# EAGLE library part PICO_XPORT (library Modules)
Lantronix xPico Device Server Module
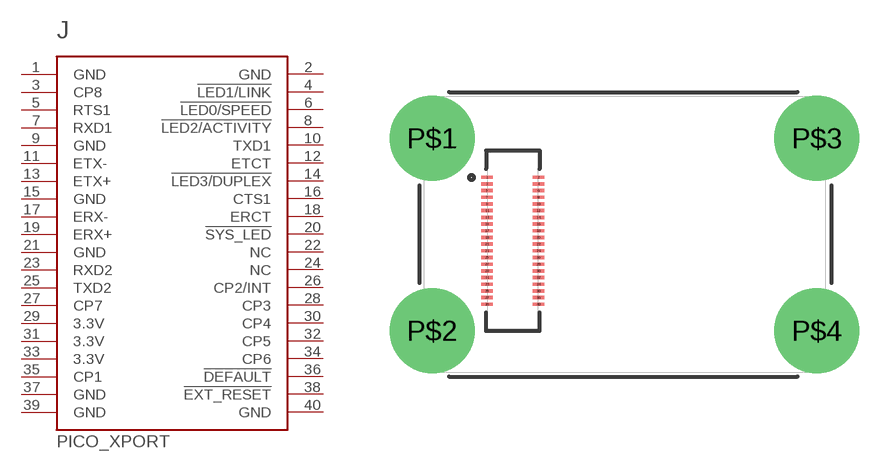
[diagram p4: symbol with the pads of PICO_XPORT; footprint PICO_XPORT]

Designator prefix J

## PICO_XPORT (PARTNO: 29-100788-00)  [PICO_XPORT]
1  GND  pwr
2  GND  pwr
3  CP8
4  !LED1/LINK  out
5  RTS1  out
6  !LED0/SPEED  out
7  RXD1  in
8  !LED2/ACTIVITY  out
9  GND  pwr
10  TXD1  out
11  ETX-  out
12  ETCT  pas
13  ETX+  out
14  !LED3/DUPLEX  out
15  GND  pwr
16  CTS1  in
17  ERX-  in
18  ERCT  pas
19  ERX+  in
20  !SYS_LED  out
21  GND  pwr
22  NC  nc
23  RXD2  in
24  NC  nc
25  TXD2  out
26  CP2/INT
27  CP7
28  CP3
29  3.3V  pwr
30  CP4
31  3.3V  pwr
32  CP5
33  3.3V  pwr
34  CP6
35  CP1
36  !DEFAULT  in
37  GND  pwr
38  !EXT_RESET  in
39  GND  pwr
40  GND  pwr

## Footprint PICO_XPORT (pad centres in mm)
Lantronix xPico wired embedded device server
smd 0.7 x 0.2: 1 -1.54,3.8; 2 1.54,3.8; 3 -1.54,3.4; 4 1.54,3.4; 5 -1.54,3; 6 1.54,3; 7 -1.54,2.6; 8 1.54,2.6; 9 -1.54,2.2; 10 1.54,2.2; 11 -1.54,1.8; 12 1.54,1.8; 13 -1.54,1.4; 14 1.54,1.4; 15 -1.54,1; 16 1.54,1; 17 -1.54,0.6; 18 1.54,0.6; 19 -1.54,0.2; 20 1.54,0.2; 21 -1.54,-0.2; 22 1.54,-0.2; 23 -1.54,-0.6; 24 1.54,-0.6; 25 -1.54,-1; 26 1.54,-1; 27 -1.54,-1.4; 28 1.54,-1.4; 29 -1.54,-1.8; 30 1.54,-1.8; 31 -1.54,-2.2; 32 1.54,-2.2; 33 -1.54,-2.6; 34 1.54,-2.6; 35 -1.54,-3; 36 1.54,-3; 37 -1.54,-3.4; 38 1.54,-3.4; 39 -1.54,-3.8; 40 1.54,-3.8
drill 3.734 pad 5.08: P$1 -4.826,6.121; P$2 -4.826,-5.385; P$3 18.186,6.121; P$4 18.186,-5.385